# Altium footprint library BUZ-SPE-SMAT24_P10.PcbLib: 1 footprints
Each footprint in its own frame and in the unit in brackets; x right, y up, seen from the top. Pads: shape width x height; smd on the part's side, far side on the other; paste and mask are expansions set on the pad; w line width, h text height; cw(c..) or ccw(c..) is an arc to the next point about the centre after c.
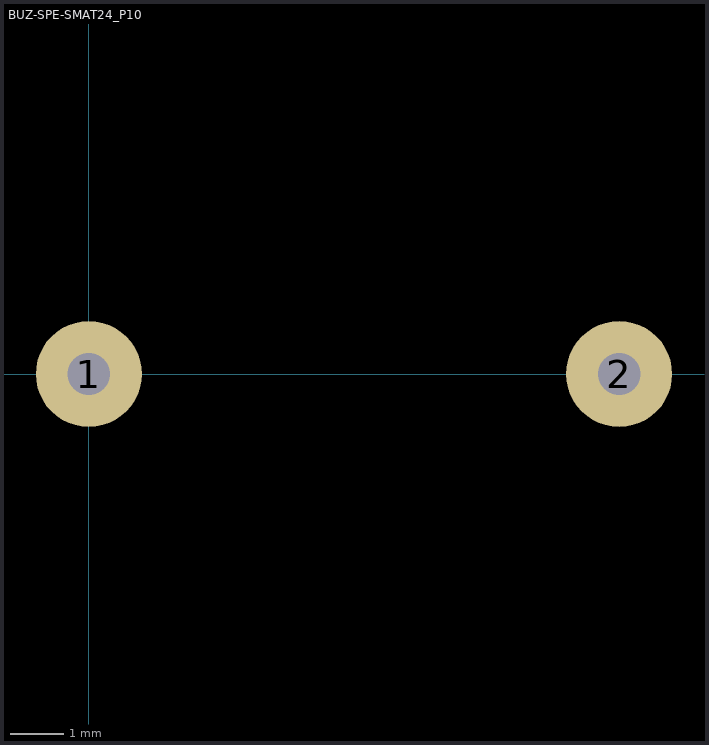
[diagram p0: the footprint, top view; thin cyan lines are the x and y axes]

## BUZ-SPE-SMAT24_P10 [mm]
pads (2):
  round 2 hole 0.8: 1(0,0) 2(10,0)
3D body: height 15.01, standoff -6.24, extent -7.052,-11.918 16.948,12.082